# Altium schematic symbol library C8051F33x.SchLib: 1 symbol
Pins are listed as number, name and electrical type; pins without a type are passive.

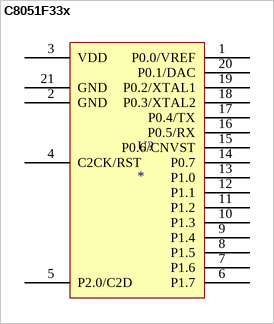
[diagram p0: symbol C8051F33x]

## C8051F33x
designator U?
Silicon Labs C8051F330; Vendor: Mouser; Notes: 10-bit ADC (F330/2/4 only)   10-bit DAC (F330 only); Manufacturer: Silicon Labs; Part No.: C8051F330; Price Est.: $4.40
footprint QFN20 4x4 SiLabs C8051 (QFN-20 Based on Silicon Labs C8051F33x)
pins: 1 P0.0/VREF, 2 GND, 3 VDD, 4 C2CK/RST, 5 P2.0/C2D, 6 P1.7, 7 P1.6, 8 P1.5, 9 P1.4, 10 P1.3, 11 P1.2, 12 P1.1, 13 P1.0, 14 P0.7, 15 P0.6/CNVST, 16 P0.5/RX, 17 P0.4/TX, 18 P0.3/XTAL2, 19 P0.2/XTAL1, 20 P0.1/DAC, 21 GND